# EAGLE library part ELPM-S3 (library ELPM-S3_v17)
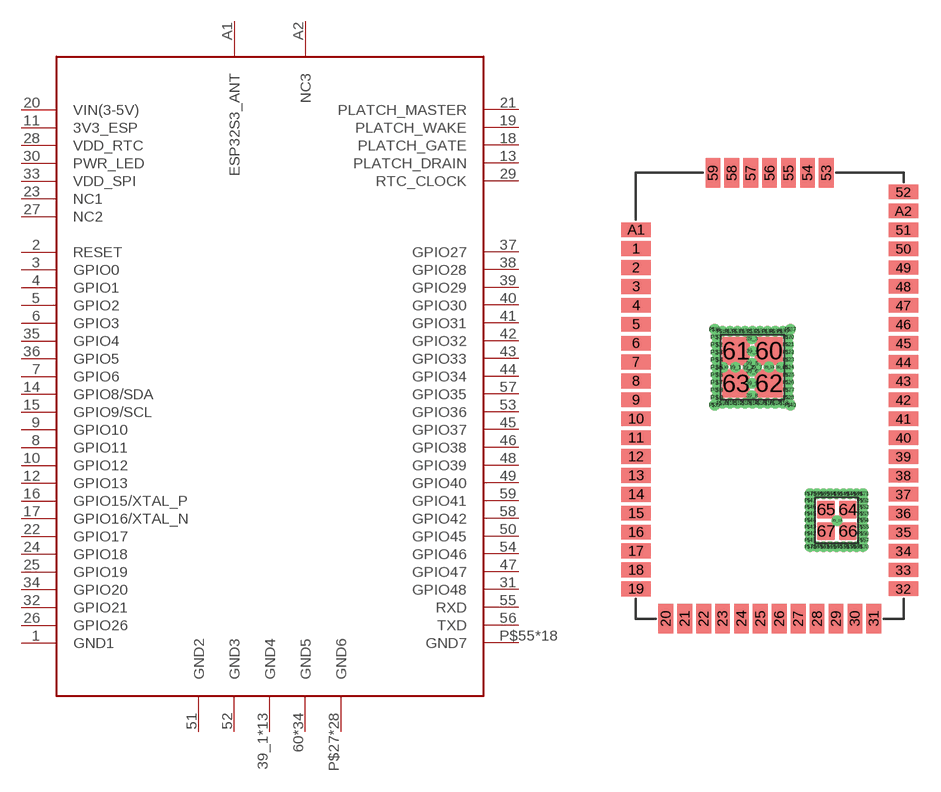
[diagram p0: symbol with the pads of ELPM-S3; footprint ELPM-S3]

Designator prefix -

## ELPM-S3  [ELPM-S3]
1  GND1
2  RESET
3  GPIO0
4  GPIO1
5  GPIO2
6  GPIO3
7  GPIO6
8  GPIO11
9  GPIO10
10  GPIO12
11  3V3_ESP
12  GPIO13
13  PLATCH_DRAIN
14  GPIO8/SDA
15  GPIO9/SCL
16  GPIO15/XTAL_P
17  GPIO16/XTAL_N
18  PLATCH_GATE
19  PLATCH_WAKE
20  VIN(3-5V)  in
21  PLATCH_MASTER
22  GPIO17
23  NC1
24  GPIO18
25  GPIO19
26  GPIO26
27  NC2
28  VDD_RTC
29  RTC_CLOCK
30  PWR_LED
31  GPIO48
32  GPIO21
33  VDD_SPI
34  GPIO20
35  GPIO4
36  GPIO5
37  GPIO27
38  GPIO28
39  GPIO29
39_1  GND4
39_2  GND4
39_3  GND4
39_4  GND4
39_5  GND4
39_6  GND4
39_7  GND4
39_8  GND4
39_9  GND4
39_10  GND4
39_11  GND4
39_12  GND4
39_13  GND4
40  GPIO30
41  GPIO31
42  GPIO32
43  GPIO33
44  GPIO34
45  GPIO37
46  GPIO38
47  GPIO47
48  GPIO39
49  GPIO40
50  GPIO45
51  GND2
52  GND3
53  GPIO36
54  GPIO46
55  RXD
56  TXD
57  GPIO35
58  GPIO42
59  GPIO41
60  GND5
61  GND5
62  GND5
63  GND5
64  GND5
65  GND5
66  GND5
67  GND5
A1  ESP32S3_ANT
A2  NC3
P$1  GND5
P$2  GND5
P$3  GND5
P$4  GND5
P$5  GND5
P$6  GND5
P$7  GND5
P$8  GND5
P$9  GND5
P$10  GND5
P$11  GND5
P$12  GND5
P$13  GND5
P$14  GND5
P$15  GND5
P$16  GND5
P$17  GND5
P$18  GND5
P$19  GND5
P$20  GND5
P$21  GND5
P$22  GND5
P$23  GND5
P$24  GND5
P$25  GND5
P$26  GND5
P$27  GND6
P$28  GND6
P$29  GND6
P$30  GND6
P$31  GND6
P$32  GND6
P$33  GND6
P$34  GND6
P$35  GND6
P$36  GND6
P$37  GND6
P$38  GND6
P$39  GND6
P$40  GND6
P$41  GND6
P$42  GND6
P$43  GND6
P$44  GND6
P$45  GND6
P$46  GND6
P$47  GND6
P$48  GND6
P$49  GND6
P$50  GND6
P$51  GND6
P$52  GND6
P$53  GND6
P$54  GND6
P$55  GND7
P$56  GND7
P$57  GND7
P$58  GND7
P$59  GND7
P$60  GND7
P$61  GND7
P$62  GND7
P$63  GND7
P$64  GND7
P$65  GND7
P$66  GND7
P$68  GND7
P$69  GND7
P$70  GND7
P$71  GND7
P$72  GND7
P$73  GND7

## Footprint ELPM-S3 (pad centres in mm)
smd 1.981 x 0.991: 1 -8.966,9.871; 2 -8.966,8.601; 3 -8.966,7.331; 4 -8.966,6.061; 5 -8.966,4.791; 6 -8.966,3.521; 7 -8.966,2.251; 8 -8.966,0.981; 9 -8.966,-0.289; 10 -8.966,-1.559; 11 -8.966,-2.829; 12 -8.966,-4.099; 13 -8.966,-5.369; 14 -8.966,-6.639; 15 -8.966,-7.909; 16 -8.966,-9.179; 17 -8.966,-10.449; 18 -8.966,-11.719; 19 -8.966,-12.989; A1 -8.966,11.141
smd 0.991 x 1.981: 20 -6.969,-14.986; 21 -5.699,-14.986; 22 -4.429,-14.986; 23 -3.159,-14.986; 24 -1.889,-14.986; 25 -0.619,-14.986; 26 0.651,-14.986; 27 1.921,-14.986; 28 3.191,-14.986; 29 4.461,-14.986; 30 5.731,-14.986; 31 7.001,-14.986; 53 3.813,14.961; 54 2.543,14.961; 55 1.274,14.961; 56 0.004,14.961; 57 -1.266,14.961; 58 -2.537,14.961; 59 -3.807,14.961
smd 1.981 x 0.965: 32 8.992,-12.989; 33 8.992,-11.719; 34 8.992,-10.449; 35 8.992,-9.179; 36 8.992,-7.909; 37 8.992,-6.639; 38 8.992,-5.369; 39 8.992,-4.099; 40 8.992,-2.829; 41 8.992,-1.559; 42 8.992,-0.289; 43 8.992,0.981; 44 8.992,2.251; 45 8.992,3.521; 46 8.992,4.791; 47 8.992,6.061; 48 8.992,7.331; 49 8.992,8.601; 50 8.992,9.871; 51 8.992,11.141; 52 8.992,13.681; A2 8.992,12.411
drill 0.2 pad 0.3: 39_1 -2.287,1.892; 39_2 -1.424,1.892; 39_3 -1.17,3.822; 39_4 -1.144,2.984; 39_5 -1.17,2.171; 39_6 -1.17,1.638; 39_7 -0.89,1.892; 39_8 -1.17,-0.013; 39_9 -1.17,0.825; 39_10 -3.126,1.892; 39_11 -0.027,1.917; 39_12 0.786,1.892; 39_13 4.52,-8.395
smd 1.905 x 1.905: 60 -0.051,2.997; 61 -2.261,2.997; 62 -0.051,0.813; 63 -2.261,0.8
smd 1.2 x 1.2: 64 5.258,-7.671; 65 3.797,-7.671; 66 5.258,-9.119; 67 3.797,-9.119
drill 0.2 pad 0.406: P$1 -3.556,3.937; P$2 -3.556,3.429; P$3 -3.556,2.921; P$4 -3.556,2.413; P$5 -3.556,1.905; P$6 -3.556,1.397; P$7 -3.556,0.889; P$8 -3.556,0.381; P$9 -3.556,-0.127; P$10 -3.175,-0.508; P$11 -2.667,-0.508; P$12 -2.159,-0.508; P$13 -1.651,-0.508; P$14 -1.143,-0.508; P$15 -0.635,-0.508; P$16 -0.127,-0.508; P$17 0.381,-0.508; P$18 0.889,-0.508; P$19 -3.175,4.318; P$20 1.27,3.937; P$21 1.27,3.429; P$22 1.27,2.921; P$23 1.27,2.413; P$24 1.27,1.905; P$25 1.27,1.397; P$26 1.27,0.889; P$27 1.27,0.381; P$28 1.27,-0.127; P$29 -2.667,4.318; P$30 -2.159,4.318; P$31 -1.651,4.318; P$32 -1.143,4.318; P$33 -0.635,4.318; P$34 -0.127,4.318; P$35 0.381,4.318; P$36 0.889,4.318; P$37 1.397,4.445; P$38 -3.683,4.445; P$39 -3.683,-0.635; P$40 1.397,-0.635; P$41 2.731,-9.716; P$42 2.731,-9.271; P$43 2.731,-8.826; P$44 2.731,-8.382; P$45 2.731,-7.938; P$46 2.731,-7.493; P$47 2.731,-7.048; P$48 5.397,-6.604; P$49 4.953,-6.604; P$50 4.508,-6.604; P$51 6.287,-7.048; P$52 6.287,-7.493; P$53 6.287,-7.938; P$54 6.287,-8.382; P$55 6.287,-8.826; P$56 6.287,-9.271; P$57 6.287,-9.716; P$58 5.397,-10.16; P$59 4.953,-10.16; P$60 4.508,-10.16; P$61 4.064,-10.16; P$62 3.619,-10.16; P$63 3.175,-10.16; P$64 4.064,-6.604; P$65 3.619,-6.604; P$66 3.175,-6.604; P$68 5.842,-10.16; P$69 5.842,-6.604; P$70 6.287,-10.16; P$71 6.287,-6.604; P$72 2.731,-10.16; P$73 2.731,-6.604